# Altium schematic symbol library SN74LVC541APWR.SchLib: 1 symbol
Pins are listed as number, name and electrical type; pins without a type are passive.

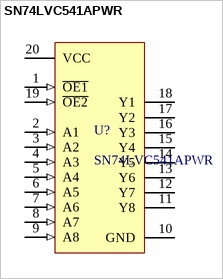
[diagram p0: symbol SN74LVC541APWR]

## SN74LVC541APWR
designator U?
footprint PW0020A_L (SOP, 20-Leads, Body 6.6x4.5mm, Pitch 0.65mm, IPC High Density)
footprint PW0020A_M (SOP, 20-Leads, Body 6.6x4.5mm, Pitch 0.65mm, IPC Low Density)
footprint PW0020A_N (SOP, 20-Leads, Body 6.6x4.5mm, Pitch 0.65mm, IPC Medium Density)
pins: 1 ~{OE1} (in) "Output enable 1", 2 A1 (in) "A1 Input", 3 A2 (in) "A2 Input", 4 A3 (in) "A3 Input", 5 A4 (in) "A4 Input", 6 A5 (in) "A5 Input", 7 A6 (in) "A6 Input", 8 A7 (in) "A7 Input", 9 A8 (in) "A8 Input", 10 GND (power) "Ground pin", 11 Y8 (hiz) "Y8 Output", 12 Y7 (hiz) "Y7 Output", 13 Y6 (hiz) "Y6 Output", 14 Y5 (hiz) "Y5 Output", 15 Y4 (hiz) "Y4 Output", 16 Y3 (hiz) "Y3 Output", 17 Y2 (hiz) "Y2 Output", 18 Y1 (hiz) "Y1 Output", 19 ~{OE2} (in) "Output enable 2", 20 VCC (power) "Power pin"